# Altium footprint library Opto.PcbLib: 1 footprints
Each footprint in its own frame and in the unit in brackets; x right, y up, seen from the top. Pads: shape width x height; smd on the part's side, far side on the other; paste and mask are expansions set on the pad; w line width, h text height; cw(c..) or ccw(c..) is an arc to the next point about the centre after c.
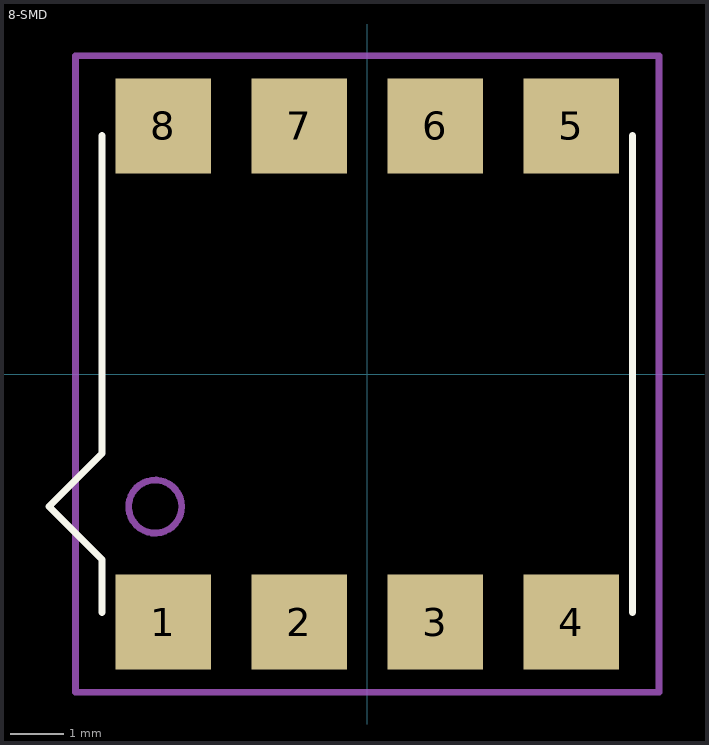
[diagram p0: the footprint, top view; thin cyan lines are the x and y axes]

## 8-SMD [mil]
pads (8):
  rect 70x70 smd: 1(-150,-182.5) 2(-50,-182.5) 3(50,-182.5) 4(150,-182.5) 5(150,182.5) 6(50,182.5) 7(-50,182.5) 8(-150,182.5)
Top Overlay:
  lines w5: -195,-175.5 -195,-136.5 -234,-97.5 -195,-58.5 -195,175.5 ; 195,-175.5 195,175.5
Mechanical 13:
  circle w5: c-156,-97.5 r19.5
Mechanical 15:
  lines w5: -214.5,-234 -214.5,234 214.5,234 214.5,-234 -214.5,-234
3D body "step_temp.STEP": height 200, standoff 0, extent -190.06,-202.76 190.06,202.76